# Altium integrated library ST Comm Telephone Circuit.IntLib: 30 symbols
Pins are listed as number, name and electrical type; pins without a type are passive.

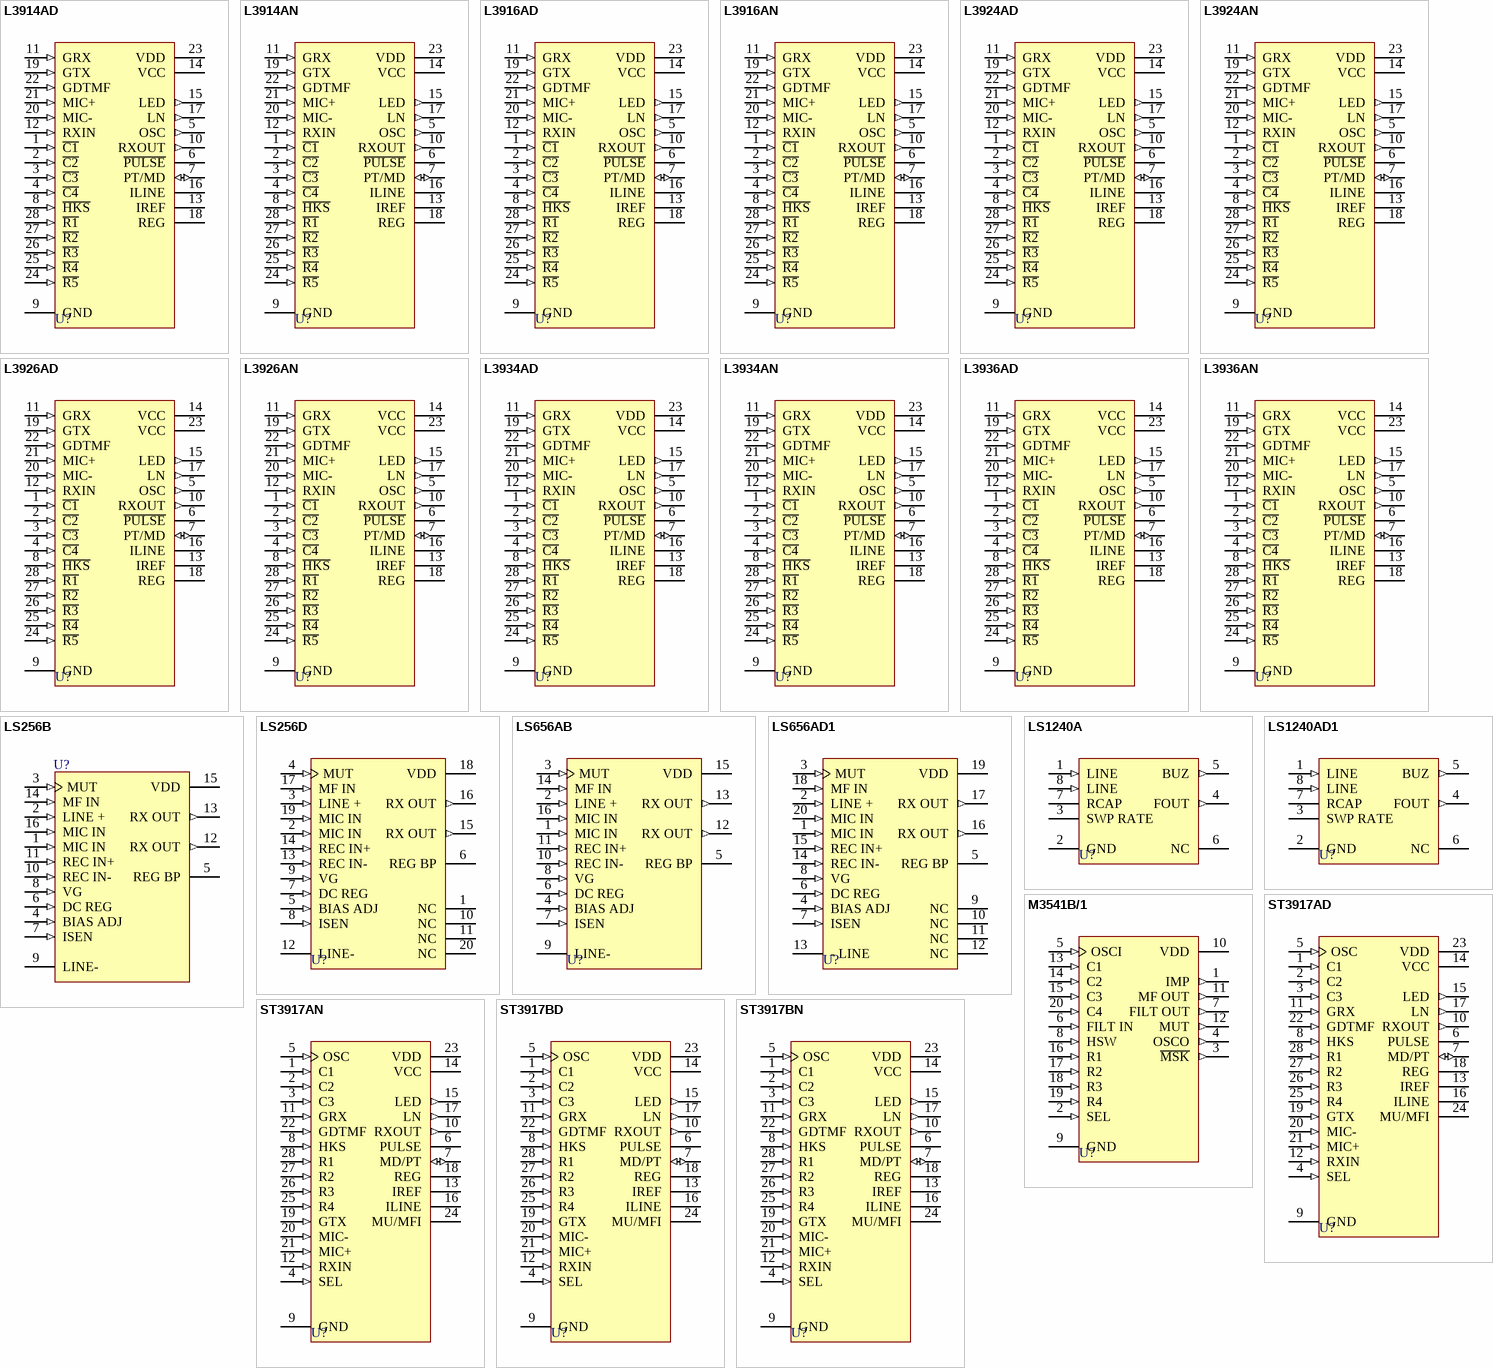
[diagram p0: symbols L3914AD to ST3917BN]

## L3914AD
designator U?
Speech and 14 Memory Dialer with Hold Function; Published: 24-Aug-2001; LatestRevisionDate: 6-Jun-2005; LatestRevisionNote: Stylized 3D Model Added.; DatasheetDocument: Jan-1995; PackageDocument: Jul-2001; PackageReference: SO28; Publisher: Altium Limited; Code_IPC: SO28W; ComponentLink1Description: Manufacturer Link; ComponentLink1URL: http://www.st.com/
footprint SO28 (Small Outline, Plastic; 28 Leads; Body Width 7.5 mm; Pitch 1.27 mm)
3D model SO28 (Small Outline, Plastic; 28 Leads; Body Width 7.5 mm; Pitch 1.27 mm)
pins: 1 ~{C1} (in), 2 ~{C2} (in), 3 ~{C3} (in), 4 ~{C4} (in), 5 OSC (out), 6 ~{PULSE} (oc), 7 PT/MD (io), 8 ~{HKS} (in), 9 GND (power), 10 RXOUT (out), 11 GRX (in), 12 RXIN (in), 13 IREF, 14 VCC (power), 15 LED (out), 16 ILINE, 17 LN (out), 18 REG, 19 GTX (in), 20 MIC- (in), 21 MIC+ (in), 22 GDTMF (in), 23 VDD (power), 24 ~{R5} (in), 25 ~{R4} (in), 26 ~{R3} (in), 27 ~{R2} (in), 28 ~{R1} (in)

## L3914AN
designator U?
Speech and 14 Memory Dialer with Hold Function; Published: 24-Aug-2001; LatestRevisionDate: 6-Jun-2005; LatestRevisionNote: Stylized 3D Model Added.; DatasheetDocument: Jan-1995; PackageDocument: Jan-2003; PackageReference: PDIP28; Publisher: Altium Limited; ComponentLink1Description: Manufacturer Link; ComponentLink1URL: http://www.st.com/
footprint PDIP28 (DIP; 28 Leads; Row Spacing 15.24 mm; Pitch 2.54 mm)
3D model PDIP28 (DIP; 28 Leads; Row Spacing 15.24 mm; Pitch 2.54 mm)
pins: 1 ~{C1} (in), 2 ~{C2} (in), 3 ~{C3} (in), 4 ~{C4} (in), 5 OSC (out), 6 ~{PULSE} (oc), 7 PT/MD (io), 8 ~{HKS} (in), 9 GND (power), 10 RXOUT (out), 11 GRX (in), 12 RXIN (in), 13 IREF, 14 VCC (power), 15 LED (out), 16 ILINE, 17 LN (out), 18 REG, 19 GTX (in), 20 MIC- (in), 21 MIC+ (in), 22 GDTMF (in), 23 VDD (power), 24 ~{R5} (in), 25 ~{R4} (in), 26 ~{R3} (in), 27 ~{R2} (in), 28 ~{R1} (in)

## L3916AD
designator U?
Speech and 14 Memory Dialer with LED Driver; Published: 24-Aug-2001; LatestRevisionDate: 6-Jun-2005; LatestRevisionNote: Stylized 3D Model Added.; DatasheetDocument: Jan-1995; PackageDocument: Jul-2001; PackageReference: SO28; Publisher: Altium Limited; Code_IPC: SO28W; ComponentLink1Description: Manufacturer Link; ComponentLink1URL: http://www.st.com/
footprint SO28 (Small Outline, Plastic; 28 Leads; Body Width 7.5 mm; Pitch 1.27 mm)
3D model SO28 (Small Outline, Plastic; 28 Leads; Body Width 7.5 mm; Pitch 1.27 mm)
pins: 1 ~{C1} (in), 2 ~{C2} (in), 3 ~{C3} (in), 4 ~{C4} (in), 5 OSC (out), 6 ~{PULSE} (oc), 7 PT/MD (io), 8 ~{HKS} (in), 9 GND (power), 10 RXOUT (out), 11 GRX (in), 12 RXIN (in), 13 IREF, 14 VCC (power), 15 LED (out), 16 ILINE, 17 LN (out), 18 REG, 19 GTX (in), 20 MIC- (in), 21 MIC+ (in), 22 GDTMF (in), 23 VDD (power), 24 ~{R5} (in), 25 ~{R4} (in), 26 ~{R3} (in), 27 ~{R2} (in), 28 ~{R1} (in)

## L3916AN
designator U?
Speech and 14 Memory Dialer with LED Driver; Published: 24-Aug-2001; LatestRevisionDate: 6-Jun-2005; LatestRevisionNote: Stylized 3D Model Added.; DatasheetDocument: Jan-1995; PackageDocument: Jan-2003; PackageReference: PDIP28; Publisher: Altium Limited; ComponentLink1Description: Manufacturer Link; ComponentLink1URL: http://www.st.com/
footprint PDIP28 (DIP; 28 Leads; Row Spacing 15.24 mm; Pitch 2.54 mm)
3D model PDIP28 (DIP; 28 Leads; Row Spacing 15.24 mm; Pitch 2.54 mm)
pins: 1 ~{C1} (in), 2 ~{C2} (in), 3 ~{C3} (in), 4 ~{C4} (in), 5 OSC (out), 6 ~{PULSE} (oc), 7 PT/MD (io), 8 ~{HKS} (in), 9 GND (power), 10 RXOUT (out), 11 GRX (in), 12 RXIN (in), 13 IREF, 14 VCC (power), 15 LED (out), 16 ILINE, 17 LN (out), 18 REG, 19 GTX (in), 20 MIC- (in), 21 MIC+ (in), 22 GDTMF (in), 23 VDD (power), 24 ~{R5} (in), 25 ~{R4} (in), 26 ~{R3} (in), 27 ~{R2} (in), 28 ~{R1} (in)

## L3924AD
designator U?
Speech and 14 Memory Dialer with Hold Function; Published: 24-Aug-2001; LatestRevisionDate: 6-Jun-2005; LatestRevisionNote: Stylized 3D Model Added.; DatasheetDocument: Jan-1995; PackageDocument: Jul-2001; PackageReference: SO28; Publisher: Altium Limited; Code_IPC: SO28W; ComponentLink1Description: Manufacturer Link; ComponentLink1URL: http://www.st.com/
footprint SO28 (Small Outline, Plastic; 28 Leads; Body Width 7.5 mm; Pitch 1.27 mm)
3D model SO28 (Small Outline, Plastic; 28 Leads; Body Width 7.5 mm; Pitch 1.27 mm)
pins: 1 ~{C1} (in), 2 ~{C2} (in), 3 ~{C3} (in), 4 ~{C4} (in), 5 OSC (out), 6 ~{PULSE} (oc), 7 PT/MD (io), 8 ~{HKS} (in), 9 GND (power), 10 RXOUT (out), 11 GRX (in), 12 RXIN (in), 13 IREF, 14 VCC (power), 15 LED (out), 16 ILINE, 17 LN (out), 18 REG, 19 GTX (in), 20 MIC- (in), 21 MIC+ (in), 22 GDTMF (in), 23 VDD (power), 24 ~{R5} (in), 25 ~{R4} (in), 26 ~{R3} (in), 27 ~{R2} (in), 28 ~{R1} (in)

## L3924AN
designator U?
Speech and 14 Memory Dialer with Hold Function; Published: 24-Aug-2001; LatestRevisionDate: 6-Jun-2005; LatestRevisionNote: Stylized 3D Model Added.; DatasheetDocument: Jan-1995; PackageDocument: Jan-2003; PackageReference: PDIP28; Publisher: Altium Limited; ComponentLink1Description: Manufacturer Link; ComponentLink1URL: http://www.st.com/
footprint PDIP28 (DIP; 28 Leads; Row Spacing 15.24 mm; Pitch 2.54 mm)
3D model PDIP28 (DIP; 28 Leads; Row Spacing 15.24 mm; Pitch 2.54 mm)
pins: 1 ~{C1} (in), 2 ~{C2} (in), 3 ~{C3} (in), 4 ~{C4} (in), 5 OSC (out), 6 ~{PULSE} (oc), 7 PT/MD (io), 8 ~{HKS} (in), 9 GND (power), 10 RXOUT (out), 11 GRX (in), 12 RXIN (in), 13 IREF, 14 VCC (power), 15 LED (out), 16 ILINE, 17 LN (out), 18 REG, 19 GTX (in), 20 MIC- (in), 21 MIC+ (in), 22 GDTMF (in), 23 VDD (power), 24 ~{R5} (in), 25 ~{R4} (in), 26 ~{R3} (in), 27 ~{R2} (in), 28 ~{R1} (in)

## L3926AD
designator U?
Speech and 14 Memory Dialer with LED Driver; Published: 24-Aug-2001; LatestRevisionDate: 6-Jun-2005; LatestRevisionNote: Stylized 3D Model Added.; DatasheetDocument: Jan-1995; PackageDocument: Jul-2001; PackageReference: SO28; Publisher: Altium Limited; Code_IPC: SO28W; ComponentLink1Description: Manufacturer Link; ComponentLink1URL: http://www.st.com/
footprint SO28 (Small Outline, Plastic; 28 Leads; Body Width 7.5 mm; Pitch 1.27 mm)
3D model SO28 (Small Outline, Plastic; 28 Leads; Body Width 7.5 mm; Pitch 1.27 mm)
pins: 1 ~{C1} (in), 2 ~{C2} (in), 3 ~{C3} (in), 4 ~{C4} (in), 5 OSC (out), 6 ~{PULSE} (oc), 7 PT/MD (io), 8 ~{HKS} (in), 9 GND (power), 10 RXOUT (out), 11 GRX (in), 12 RXIN (in), 13 IREF, 14 VCC (power), 15 LED (out), 16 ILINE, 17 LN (out), 18 REG, 19 GTX (in), 20 MIC- (in), 21 MIC+ (in), 22 GDTMF (in), 23 VCC (power), 24 ~{R5} (in), 25 ~{R4} (in), 26 ~{R3} (in), 27 ~{R2} (in), 28 ~{R1} (in)

## L3926AN
designator U?
Speech and 14 Memory Dialer with LED Driver; Published: 24-Aug-2001; LatestRevisionDate: 6-Jun-2005; LatestRevisionNote: Stylized 3D Model Added.; DatasheetDocument: Jan-1995; PackageDocument: Jan-2003; PackageReference: PDIP28; Publisher: Altium Limited; ComponentLink1Description: Manufacturer Link; ComponentLink1URL: http://www.st.com/
footprint PDIP28 (DIP; 28 Leads; Row Spacing 15.24 mm; Pitch 2.54 mm)
3D model PDIP28 (DIP; 28 Leads; Row Spacing 15.24 mm; Pitch 2.54 mm)
pins: 1 ~{C1} (in), 2 ~{C2} (in), 3 ~{C3} (in), 4 ~{C4} (in), 5 OSC (out), 6 ~{PULSE} (oc), 7 PT/MD (io), 8 ~{HKS} (in), 9 GND (power), 10 RXOUT (out), 11 GRX (in), 12 RXIN (in), 13 IREF, 14 VCC (power), 15 LED (out), 16 ILINE, 17 LN (out), 18 REG, 19 GTX (in), 20 MIC- (in), 21 MIC+ (in), 22 GDTMF (in), 23 VCC (power), 24 ~{R5} (in), 25 ~{R4} (in), 26 ~{R3} (in), 27 ~{R2} (in), 28 ~{R1} (in)

## L3934AD
designator U?
Speech and 14 Memory Dialer with Hold Function; Published: 24-Aug-2001; LatestRevisionDate: 6-Jun-2005; LatestRevisionNote: Stylized 3D Model Added.; DatasheetDocument: Jan-1995; PackageDocument: Jul-2001; PackageReference: SO28; Publisher: Altium Limited; Code_IPC: SO28W; ComponentLink1Description: Manufacturer Link; ComponentLink1URL: http://www.st.com/
footprint SO28 (Small Outline, Plastic; 28 Leads; Body Width 7.5 mm; Pitch 1.27 mm)
3D model SO28 (Small Outline, Plastic; 28 Leads; Body Width 7.5 mm; Pitch 1.27 mm)
pins: 1 ~{C1} (in), 2 ~{C2} (in), 3 ~{C3} (in), 4 ~{C4} (in), 5 OSC (out), 6 ~{PULSE} (oc), 7 PT/MD (io), 8 ~{HKS} (in), 9 GND (power), 10 RXOUT (out), 11 GRX (in), 12 RXIN (in), 13 IREF, 14 VCC (power), 15 LED (out), 16 ILINE, 17 LN (out), 18 REG, 19 GTX (in), 20 MIC- (in), 21 MIC+ (in), 22 GDTMF (in), 23 VDD (power), 24 ~{R5} (in), 25 ~{R4} (in), 26 ~{R3} (in), 27 ~{R2} (in), 28 ~{R1} (in)

## L3934AN
designator U?
Speech and 14 Memory Dialer with Hold Function; Published: 24-Aug-2001; LatestRevisionDate: 6-Jun-2005; LatestRevisionNote: Stylized 3D Model Added.; DatasheetDocument: Jan-1995; PackageDocument: Jan-2003; PackageReference: PDIP28; Publisher: Altium Limited; ComponentLink1Description: Manufacturer Link; ComponentLink1URL: http://www.st.com/
footprint PDIP28 (DIP; 28 Leads; Row Spacing 15.24 mm; Pitch 2.54 mm)
3D model PDIP28 (DIP; 28 Leads; Row Spacing 15.24 mm; Pitch 2.54 mm)
pins: 1 ~{C1} (in), 2 ~{C2} (in), 3 ~{C3} (in), 4 ~{C4} (in), 5 OSC (out), 6 ~{PULSE} (oc), 7 PT/MD (io), 8 ~{HKS} (in), 9 GND (power), 10 RXOUT (out), 11 GRX (in), 12 RXIN (in), 13 IREF, 14 VCC (power), 15 LED (out), 16 ILINE, 17 LN (out), 18 REG, 19 GTX (in), 20 MIC- (in), 21 MIC+ (in), 22 GDTMF (in), 23 VDD (power), 24 ~{R5} (in), 25 ~{R4} (in), 26 ~{R3} (in), 27 ~{R2} (in), 28 ~{R1} (in)

## L3936AD
designator U?
Speech and 14 Memory Dialer with LED Driver; Published: 24-Aug-2001; LatestRevisionDate: 6-Jun-2005; LatestRevisionNote: Stylized 3D Model Added.; DatasheetDocument: Jan-1995; PackageDocument: Jul-2001; PackageReference: SO28; Publisher: Altium Limited; Code_IPC: SO28W; ComponentLink1Description: Manufacturer Link; ComponentLink1URL: http://www.st.com/
footprint SO28 (Small Outline, Plastic; 28 Leads; Body Width 7.5 mm; Pitch 1.27 mm)
3D model SO28 (Small Outline, Plastic; 28 Leads; Body Width 7.5 mm; Pitch 1.27 mm)
pins: 1 ~{C1} (in), 2 ~{C2} (in), 3 ~{C3} (in), 4 ~{C4} (in), 5 OSC (out), 6 ~{PULSE} (oc), 7 PT/MD (io), 8 ~{HKS} (in), 9 GND (power), 10 RXOUT (out), 11 GRX (in), 12 RXIN (in), 13 IREF, 14 VCC (power), 15 LED (out), 16 ILINE, 17 LN (out), 18 REG, 19 GTX (in), 20 MIC- (in), 21 MIC+ (in), 22 GDTMF (in), 23 VCC (power), 24 ~{R5} (in), 25 ~{R4} (in), 26 ~{R3} (in), 27 ~{R2} (in), 28 ~{R1} (in)

## L3936AN
designator U?
Speech and 14 Memory Dialer with LED Driver; Published: 24-Aug-2001; LatestRevisionDate: 6-Jun-2005; LatestRevisionNote: Stylized 3D Model Added.; DatasheetDocument: Jan-1995; PackageDocument: Jan-2003; PackageReference: PDIP28; Publisher: Altium Limited; ComponentLink1Description: Manufacturer Link; ComponentLink1URL: http://www.st.com/
footprint PDIP28 (DIP; 28 Leads; Row Spacing 15.24 mm; Pitch 2.54 mm)
3D model PDIP28 (DIP; 28 Leads; Row Spacing 15.24 mm; Pitch 2.54 mm)
pins: 1 ~{C1} (in), 2 ~{C2} (in), 3 ~{C3} (in), 4 ~{C4} (in), 5 OSC (out), 6 ~{PULSE} (oc), 7 PT/MD (io), 8 ~{HKS} (in), 9 GND (power), 10 RXOUT (out), 11 GRX (in), 12 RXIN (in), 13 IREF, 14 VCC (power), 15 LED (out), 16 ILINE, 17 LN (out), 18 REG, 19 GTX (in), 20 MIC- (in), 21 MIC+ (in), 22 GDTMF (in), 23 VCC (power), 24 ~{R5} (in), 25 ~{R4} (in), 26 ~{R3} (in), 27 ~{R2} (in), 28 ~{R1} (in)

## LS256B
designator U?
Telephone Speech Circuit with Multifrequency Tone Generator Interface; Published: 24-Aug-2001; LatestRevisionDate: 6-Jun-2005; LatestRevisionNote: Stylized 3D Model Added.; DatasheetDocument: Nov-1996; PackageDocument: Apr-1996; PackageReference: DIP16; Publisher: Altium Limited; ComponentLink1Description: Manufacturer Link; ComponentLink1URL: http://www.st.com/
footprint DIP16 (DIP; 16 Leads; Row Spacing 7.62 mm; Pitch 2.54 mm)
3D model DIP16 (DIP; 16 Leads; Row Spacing 7.62 mm; Pitch 2.54 mm)
pins: 1 MIC IN (in), 2 LINE + (in), 3 MUT (in), 4 BIAS ADJ (in), 5 REG BP, 6 DC REG (in), 7 ISEN (in), 8 VG (in), 9 LINE- (power), 10 REC IN- (in), 11 REC IN+ (in), 12 RX OUT (out), 13 RX OUT (out), 14 MF IN (in), 15 VDD (power), 16 MIC IN (in)

## LS256D
designator U?
Telephone Speech Circuit with Multifrequency Tone Generator Interface; Published: 24-Aug-2001; LatestRevisionDate: 6-Jun-2005; LatestRevisionNote: Stylized 3D Model Added.; DatasheetDocument: Nov-1996; PackageDocument: Jul-2001; PackageReference: SO20; Publisher: Altium Limited; Code_JEDEC: MS-013-AC; Code_IPC: SO20W; ComponentLink1Description: Manufacturer Link; ComponentLink1URL: http://www.st.com/
footprint SO20 (Small Outline, Plastic; 20 Leads; Body Width 7.5 mm; Pitch 1.27 mm)
3D model SO20 (Small Outline, Plastic; 20 Leads; Body Width 7.5 mm; Pitch 1.27 mm)
pins: 1 NC, 2 MIC IN (in), 3 LINE + (in), 4 MUT (in), 5 BIAS ADJ (in), 6 REG BP, 7 DC REG (in), 8 ISEN (in), 9 VG (in), 10 NC, 11 NC, 12 LINE- (power), 13 REC IN- (in), 14 REC IN+ (in), 15 RX OUT (out), 16 RX OUT (out), 17 MF IN (in), 18 VDD (power), 19 MIC IN (in), 20 NC

## LS656AB
designator U?
Telephone Speech Circuit with Multifrequency Tone Generator Interface; Published: 24-Aug-2001; LatestRevisionDate: 6-Jun-2005; LatestRevisionNote: Stylized 3D Model Added.; DatasheetDocument: Jun-1993; PackageDocument: Apr-1996; PackageReference: DIP16; Publisher: Altium Limited; ComponentLink1Description: Manufacturer Link; ComponentLink1URL: http://www.st.com/
footprint DIP16 (DIP; 16 Leads; Row Spacing 7.62 mm; Pitch 2.54 mm)
3D model DIP16 (DIP; 16 Leads; Row Spacing 7.62 mm; Pitch 2.54 mm)
pins: 1 MIC IN (in), 2 LINE + (in), 3 MUT (in), 4 BIAS ADJ (in), 5 REG BP, 6 DC REG (in), 7 ISEN (in), 8 VG (in), 9 LINE- (power), 10 REC IN- (in), 11 REC IN+ (in), 12 RX OUT (out), 13 RX OUT (out), 14 MF IN (in), 15 VDD (power), 16 MIC IN (in)

## LS656AD1
designator U?
Telephone Speech Circuit with Multifrequency Tone Generator Interface; Published: 24-Aug-2001; LatestRevisionDate: 6-Jun-2005; LatestRevisionNote: Stylized 3D Model Added.; DatasheetDocument: Jun-1993; PackageDocument: Jul-2001; PackageReference: SO20; Publisher: Altium Limited; Code_JEDEC: MS-013-AC; Code_IPC: SO20W; ComponentLink1Description: Manufacturer Link; ComponentLink1URL: http://www.st.com/
footprint SO20 (Small Outline, Plastic; 20 Leads; Body Width 7.5 mm; Pitch 1.27 mm)
3D model SO20 (Small Outline, Plastic; 20 Leads; Body Width 7.5 mm; Pitch 1.27 mm)
pins: 1 MIC IN (in), 2 LINE + (in), 3 MUT (in), 4 BIAS ADJ (in), 5 REG BP, 6 DC REG (in), 7 ISEN (in), 8 VG (in), 9 NC, 10 NC, 11 NC, 12 NC, 13 - LINE (power), 14 REC IN- (in), 15 REC IN+ (in), 16 RX OUT (out), 17 RX OUT (out), 18 MF IN (in), 19 VDD (power), 20 MIC IN (in)

## LS1240A
designator U?
Electronic Two-Tone Ringer; Published: 24-Aug-2001; LatestRevisionDate: 6-Jun-2005; LatestRevisionNote: Stylized 3D Model Added.; DatasheetDocument: Jul-1998; PackageReference: DIP8; Publisher: Altium Limited; Code_JEDEC: MO-001-AN; ComponentLink1Description: Manufacturer Link; ComponentLink1URL: http://www.st.com/; ComponentLink2Description: Datasheet; ComponentLink2URL: http://www.st.com/stonline/products/literature/ds/1041/ls1240.pdf
footprint DIP8 (DIP; 8 Leads; Row Spacing 7.62 mm; Pitch 2.54 mm)
3D model DIP8 (DIP; 8 Leads; Row Spacing 7.62 mm; Pitch 2.54 mm)
pins: 1 LINE (in), 2 GND (power), 3 SWP RATE, 4 FOUT (out), 5 BUZ (out), 6 NC, 7 RCAP, 8 LINE (in)

## LS1240AD1
designator U?
Electronic Two-Tone Ringer; Published: 24-Aug-2001; LatestRevisionDate: 6-Jun-2005; LatestRevisionNote: Stylized 3D Model Added.; DatasheetDocument: Jul-1998; PackageDocument: Jul-1998; PackageReference: SO8; Publisher: Altium Limited; Code_JEDEC: MS-012-AA; Code_IPC: SO8; ComponentLink1Description: Manufacturer Link; ComponentLink1URL: http://www.st.com/; ComponentLink2Description: Datasheet; ComponentLink2URL: http://www.st.com/stonline/products/literature/ds/1041/ls1240.pdf
footprint SO8 (Small Outline; 8 Leads; Body Width 3.9 mm; Pitch 1.27 mm)
3D model SO8 (Small Outline; 8 Leads; Body Width 3.9 mm; Pitch 1.27 mm)
pins: 1 LINE (in), 2 GND (power), 3 SWP RATE, 4 FOUT (out), 5 BUZ (out), 6 NC, 7 RCAP, 8 LINE (in)

## M3541B/1
designator U?
Single Number Pulse Tone Switchable Dialer; Published: 24-Aug-2001; LatestRevisionDate: 6-Jun-2005; LatestRevisionNote: Stylized 3D Model Added.; DatasheetDocument: Jul-1993; PackageDocument: Jun-1998; PackageReference: DIP20; Publisher: Altium Limited; Code_JEDEC: MS-015-AE; ComponentLink1Description: Manufacturer Link; ComponentLink1URL: http://www.st.com/
footprint DIP20 (DIP; 20 Leads; Row Spacing 7.62 mm; Pitch 2.54 mm)
3D model DIP20 (DIP; 20 Leads; Row Spacing 7.62 mm; Pitch 2.54 mm)
pins: 1 IMP (out), 2 SEL (in), 3 ~{MSK} (out), 4 OSCO (out), 5 OSCI (in), 6 FILT IN (in), 7 FILT OUT (out), 8 HSW (in), 9 GND (power), 10 VDD (power), 11 MF OUT (out), 12 MUT (out), 13 C1 (in), 14 C2 (in), 15 C3 (in), 16 R1 (in), 17 R2 (in), 18 R3 (in), 19 R4 (in), 20 C4 (in)

## ST3917AD
designator U?
Speech - Tone/Pulse Dialer - LED Indicator; Published: 24-Aug-2001; LatestRevisionDate: 6-Jun-2005; LatestRevisionNote: Stylized 3D Model Added.; DatasheetDocument: Jul-1996; PackageDocument: Jul-2001; PackageReference: SO28; Publisher: Altium Limited; Code_IPC: SO28W; ComponentLink1Description: Manufacturer Link; ComponentLink1URL: http://www.st.com/
footprint SO28 (Small Outline, Plastic; 28 Leads; Body Width 7.5 mm; Pitch 1.27 mm)
3D model SO28 (Small Outline, Plastic; 28 Leads; Body Width 7.5 mm; Pitch 1.27 mm)
pins: 1 C1 (in), 2 C2 (in), 3 C3 (in), 4 SEL (in), 5 OSC (in), 6 PULSE (oc), 7 MD/PT (io), 8 HKS (in), 9 GND (power), 10 RXOUT (out), 11 GRX (in), 12 RXIN (in), 13 IREF, 14 VCC (power), 15 LED (out), 16 ILINE, 17 LN (out), 18 REG, 19 GTX (in), 20 MIC- (in), 21 MIC+ (in), 22 GDTMF (in), 23 VDD (power), 24 MU/MFI, 25 R4 (in), 26 R3 (in), 27 R2 (in), 28 R1 (in)

## ST3917AN
designator U?
Speech - Tone/Pulse Dialer - LED Indicator; Published: 24-Aug-2001; LatestRevisionDate: 6-Jun-2005; LatestRevisionNote: Stylized 3D Model Added.; DatasheetDocument: Jul-1996; PackageDocument: Jan-2003; PackageReference: PDIP28; Publisher: Altium Limited; ComponentLink1Description: Manufacturer Link; ComponentLink1URL: http://www.st.com/
footprint PDIP28 (DIP; 28 Leads; Row Spacing 15.24 mm; Pitch 2.54 mm)
3D model PDIP28 (DIP; 28 Leads; Row Spacing 15.24 mm; Pitch 2.54 mm)
pins: 1 C1 (in), 2 C2 (in), 3 C3 (in), 4 SEL (in), 5 OSC (in), 6 PULSE (oc), 7 MD/PT (io), 8 HKS (in), 9 GND (power), 10 RXOUT (out), 11 GRX (in), 12 RXIN (in), 13 IREF, 14 VCC (power), 15 LED (out), 16 ILINE, 17 LN (out), 18 REG, 19 GTX (in), 20 MIC- (in), 21 MIC+ (in), 22 GDTMF (in), 23 VDD (power), 24 MU/MFI, 25 R4 (in), 26 R3 (in), 27 R2 (in), 28 R1 (in)

## ST3917BD
designator U?
Speech - Tone/Pulse Dialer - LED Indicator; Published: 24-Aug-2001; LatestRevisionDate: 6-Jun-2005; LatestRevisionNote: Stylized 3D Model Added.; DatasheetDocument: Jul-1996; PackageDocument: Jul-2001; PackageReference: SO28; Publisher: Altium Limited; Code_IPC: SO28W; ComponentLink1Description: Manufacturer Link; ComponentLink1URL: http://www.st.com/
footprint SO28 (Small Outline, Plastic; 28 Leads; Body Width 7.5 mm; Pitch 1.27 mm)
3D model SO28 (Small Outline, Plastic; 28 Leads; Body Width 7.5 mm; Pitch 1.27 mm)
pins: 1 C1 (in), 2 C2 (in), 3 C3 (in), 4 SEL (in), 5 OSC (in), 6 PULSE (oc), 7 MD/PT (io), 8 HKS (in), 9 GND (power), 10 RXOUT (out), 11 GRX (in), 12 RXIN (in), 13 IREF, 14 VCC (power), 15 LED (out), 16 ILINE, 17 LN (out), 18 REG, 19 GTX (in), 20 MIC- (in), 21 MIC+ (in), 22 GDTMF (in), 23 VDD (power), 24 MU/MFI, 25 R4 (in), 26 R3 (in), 27 R2 (in), 28 R1 (in)

## ST3917BN
designator U?
Speech - Tone/Pulse Dialer - LED Indicator; Published: 24-Aug-2001; LatestRevisionDate: 6-Jun-2005; LatestRevisionNote: Stylized 3D Model Added.; DatasheetDocument: Jul-1996; PackageDocument: Jan-2003; PackageReference: PDIP28; Publisher: Altium Limited; ComponentLink1Description: Manufacturer Link; ComponentLink1URL: http://www.st.com/
footprint PDIP28 (DIP; 28 Leads; Row Spacing 15.24 mm; Pitch 2.54 mm)
3D model PDIP28 (DIP; 28 Leads; Row Spacing 15.24 mm; Pitch 2.54 mm)
pins: 1 C1 (in), 2 C2 (in), 3 C3 (in), 4 SEL (in), 5 OSC (in), 6 PULSE (oc), 7 MD/PT (io), 8 HKS (in), 9 GND (power), 10 RXOUT (out), 11 GRX (in), 12 RXIN (in), 13 IREF, 14 VCC (power), 15 LED (out), 16 ILINE, 17 LN (out), 18 REG, 19 GTX (in), 20 MIC- (in), 21 MIC+ (in), 22 GDTMF (in), 23 VDD (power), 24 MU/MFI, 25 R4 (in), 26 R3 (in), 27 R2 (in), 28 R1 (in)

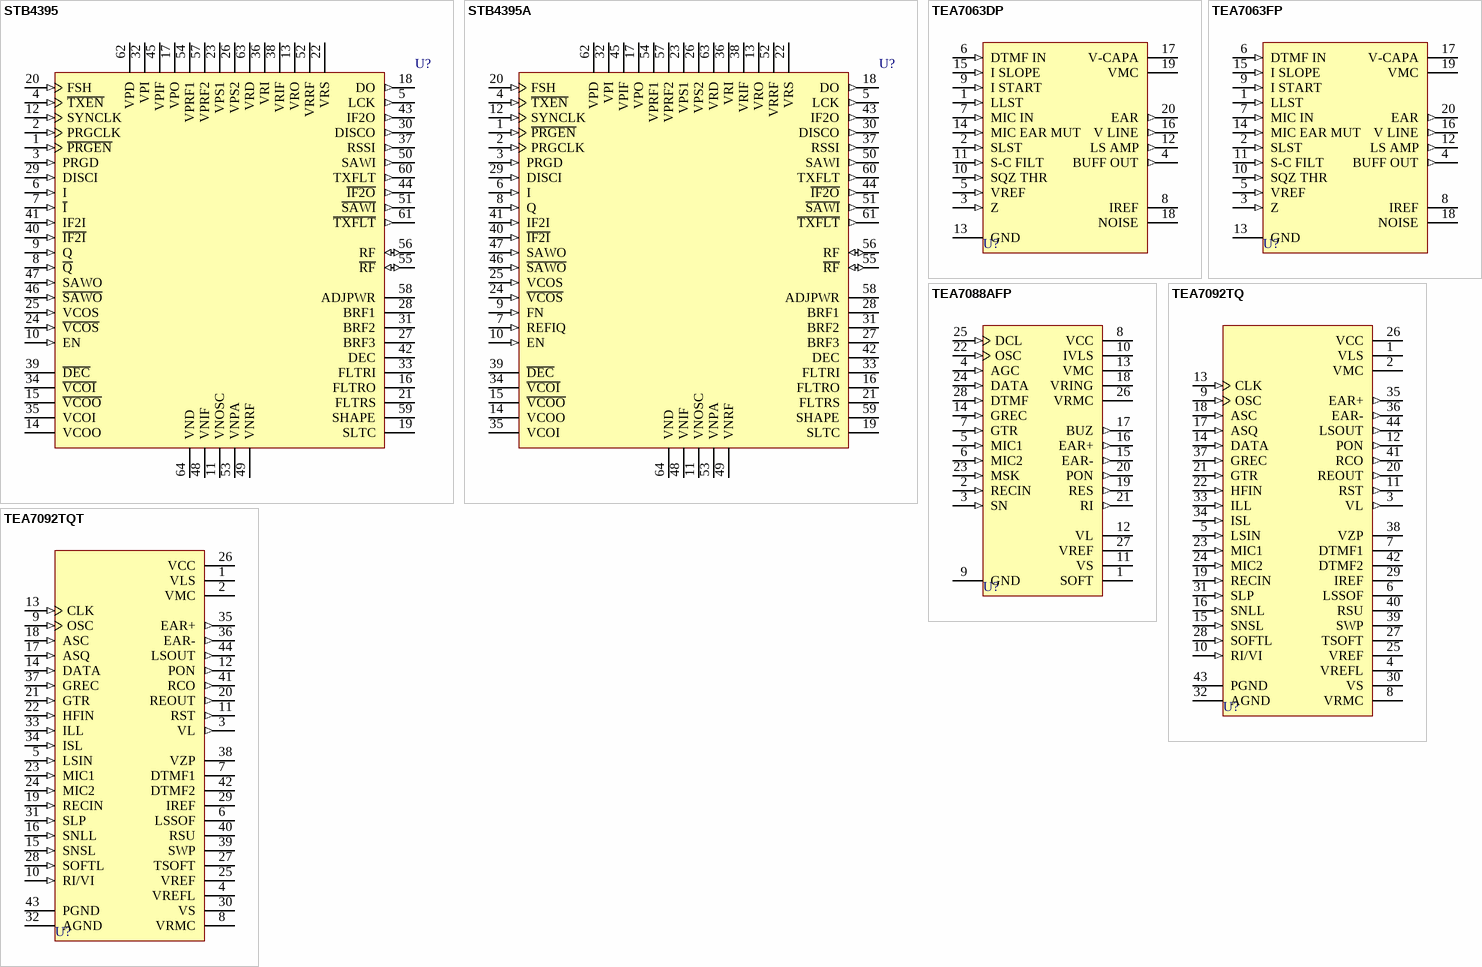
[diagram p1: symbols STB4395 to TEA7092TQT]

## STB4395
designator U?
CT2 Receiver/Transmitter; Published: 24-Aug-2001; LatestRevisionDate: 6-Jun-2005; LatestRevisionNote: Stylized 3D Model Added.; DatasheetDocument: Apr-1996; PackageDocument: Jul-2001; PackageReference: PQFP64; Publisher: Altium Limited; ComponentLink1Description: Manufacturer Link; ComponentLink1URL: http://www.st.com/
footprint PQFP64 (QFP, Plastic; 64 Leads; Body 14 x 14 mm; Pitch 0.8 mm)
3D model STB4395-PQFP64 (QFP, Plastic; 64 Leads; Body 14 x 14 mm; Pitch 0.8 mm)
pins: 1 ~{PRGEN} (in), 2 PRGCLK (in), 3 PRGD (in), 4 ~{TXEN} (in), 5 LCK (out), 6 I (in), 7 ~{I} (in), 8 ~{Q} (in), 9 Q (in), 10 EN (in), 11 VNOSC (power), 12 SYNCLK (in), 13 VRO (power), 14 VCOO, 15 ~{VCOO}, 16 FLTRO, 17 VPO (power), 18 DO (out), 19 SLTC, 20 FSH (in), 21 FLTRS, 22 VRS (power), 23 VPS1 (power), 24 ~{VCOS} (in), 25 VCOS (in), 26 VPS2 (power), 27 BRF3, 28 BRF1, 29 DISCI (in), 30 DISCO (out), 31 BRF2, 32 VPI (power), 33 FLTRI, 34 ~{VCOI}, 35 VCOI, 36 VRI (power), 37 RSSI (out), 38 VRIF (power), 39 ~{DEC}, 40 ~{IF2I} (in), 41 IF2I (in), 42 DEC, 43 IF2O (out), 44 ~{IF2O} (out), 45 VPIF (power), 46 ~{SAWO} (in), 47 SAWO (in), 48 VNIF (power), 49 VNRF (power), 50 SAWI (out), 51 ~{SAWI} (out), 52 VRRF (power), 53 VNPA (power), 54 VPRF1 (power), 55 ~{RF} (io), 56 RF (io), 57 VPRF2 (power), 58 ADJPWR, 59 SHAPE, 60 TXFLT (out), 61 ~{TXFLT} (out), 62 VPD (power), 63 VRD (power), 64 VND (power)

## STB4395A
designator U?
CT2 Receiver/Transmitter; Published: 24-Aug-2001; LatestRevisionDate: 6-Jun-2005; LatestRevisionNote: Stylized 3D Model Added.; DatasheetDocument: Apr-1996; PackageDocument: Jul-2001; PackageReference: PQFP64; Publisher: Altium Limited; ComponentLink1Description: Manufacturer Link; ComponentLink1URL: http://www.st.com/
footprint PQFP64 (QFP, Plastic; 64 Leads; Body 14 x 14 mm; Pitch 0.8 mm)
3D model STB4395A-PQFP64 (QFP, Plastic; 64 Leads; Body 14 x 14 mm; Pitch 0.8 mm)
pins: 1 ~{PRGEN} (in), 2 PRGCLK (in), 3 PRGD (in), 4 ~{TXEN} (in), 5 LCK (out), 6 I (in), 7 REFIQ (in), 8 Q (in), 9 FN (in), 10 EN (in), 11 VNOSC (power), 12 SYNCLK (in), 13 VRO (power), 14 VCOO, 15 ~{VCOO}, 16 FLTRO, 17 VPO (power), 18 DO (out), 19 SLTC, 20 FSH (in), 21 FLTRS, 22 VRS (power), 23 VPS1 (power), 24 ~{VCOS} (in), 25 VCOS (in), 26 VPS2 (power), 27 BRF3, 28 BRF1, 29 DISCI (in), 30 DISCO (out), 31 BRF2, 32 VPI (power), 33 FLTRI, 34 ~{VCOI}, 35 VCOI, 36 VRI (power), 37 RSSI (out), 38 VRIF (power), 39 ~{DEC}, 40 ~{IF2I} (in), 41 IF2I (in), 42 DEC, 43 IF2O (out), 44 ~{IF2O} (out), 45 VPIF (power), 46 ~{SAWO} (in), 47 SAWO (in), 48 VNIF (power), 49 VNRF (power), 50 SAWI (out), 51 ~{SAWI} (out), 52 VRRF (power), 53 VNPA (power), 54 VPRF1 (power), 55 ~{RF} (io), 56 RF (io), 57 VPRF2 (power), 58 ADJPWR, 59 SHAPE, 60 TXFLT (out), 61 ~{TXFLT} (out), 62 VPD (power), 63 VRD (power), 64 VND (power)

## TEA7063DP
designator U?
Speech Circuit with Power Management; Published: 24-Aug-2001; LatestRevisionDate: 6-Jun-2005; LatestRevisionNote: Stylized 3D Model Added.; DatasheetDocument: Jan-1994; PackageDocument: Jul-2001; PackageReference: SO20; Publisher: Altium Limited; Code_JEDEC: MS-013-AC; Code_IPC: SO20W; ComponentLink1Description: Manufacturer Link; ComponentLink1URL: http://www.st.com/
footprint SO20 (Small Outline, Plastic; 20 Leads; Body Width 7.5 mm; Pitch 1.27 mm)
3D model SO20 (Small Outline, Plastic; 20 Leads; Body Width 7.5 mm; Pitch 1.27 mm)
pins: 1 LLST (in), 2 SLST (in), 3 Z (in), 4 BUFF OUT (out), 5 VREF (in), 6 DTMF IN (in), 7 MIC IN (in), 8 IREF, 9 I START (in), 10 SQZ THR (in), 11 S-C FILT (in), 12 LS AMP (out), 13 GND (power), 14 MIC EAR MUT (in), 15 I SLOPE (in), 16 V LINE (out), 17 V-CAPA (power), 18 NOISE, 19 VMC (power), 20 EAR (out)

## TEA7063FP
designator U?
Speech Circuit with Power Management; Published: 24-Aug-2001; LatestRevisionDate: 6-Jun-2005; LatestRevisionNote: Stylized 3D Model Added.; DatasheetDocument: Jan-1994; PackageDocument: Jun-1998; PackageReference: DIP20; Publisher: Altium Limited; Code_JEDEC: MS-015-AE; ComponentLink1Description: Manufacturer Link; ComponentLink1URL: http://www.st.com/
footprint DIP20 (DIP; 20 Leads; Row Spacing 7.62 mm; Pitch 2.54 mm)
3D model DIP20 (DIP; 20 Leads; Row Spacing 7.62 mm; Pitch 2.54 mm)
pins: 1 LLST (in), 2 SLST (in), 3 Z (in), 4 BUFF OUT (out), 5 VREF (in), 6 DTMF IN (in), 7 MIC IN (in), 8 IREF, 9 I START (in), 10 SQZ THR (in), 11 S-C FILT (in), 12 LS AMP (out), 13 GND (power), 14 MIC EAR MUT (in), 15 I SLOPE (in), 16 V LINE (out), 17 V-CAPA (power), 18 NOISE, 19 VMC (power), 20 EAR (out)

## TEA7088AFP
designator U?
Low-Range Phone Dedicated Chip; Published: 24-Aug-2001; LatestRevisionDate: 6-Jun-2005; LatestRevisionNote: Stylized 3D Model Added.; DatasheetDocument: Jan-1998; PackageDocument: Jul-2001; PackageReference: SO28; Publisher: Altium Limited; Code_IPC: SO28W; ComponentLink1Description: Manufacturer Link; ComponentLink1URL: http://www.st.com/
footprint SO28 (Small Outline, Plastic; 28 Leads; Body Width 7.5 mm; Pitch 1.27 mm)
3D model SO28 (Small Outline, Plastic; 28 Leads; Body Width 7.5 mm; Pitch 1.27 mm)
pins: 1 SOFT (power), 2 RECIN (in), 3 SN (in), 4 AGC (in), 5 MIC1 (in), 6 MIC2 (in), 7 GTR (in), 8 VCC (power), 9 GND (power), 10 IVLS (power), 11 VS, 12 VL, 13 VMC (power), 14 GREC (in), 15 EAR- (out), 16 EAR+ (out), 17 BUZ (out), 18 VRING (power), 19 RES (out), 20 PON (out), 21 RI (out), 22 OSC (in), 23 MSK (in), 24 DATA (in), 25 DCL (in), 26 VRMC (power), 27 VREF, 28 DTMF (in)

## TEA7092TQ
designator U?
Telephone Analog Front-End; Published: 24-Aug-2001; LatestRevisionDate: 6-Jun-2005; LatestRevisionNote: Stylized 3D Model Added.; DatasheetDocument: Jul-1996; PackageDocument: Oct-2003; PackageReference: TQFP44; Publisher: Altium Limited; ComponentLink1Description: Manufacturer Link; ComponentLink1URL: http://www.st.com/
footprint TQFP44 (QFP, Plastic, Thin; 44 Leads; Body 10 x 10 mm; Pitch 0.8 mm)
3D model TEA7092-TQFP44 (QFP, Plastic, Thin; 44 Leads; Body 10 x 10 mm; Pitch 0.8 mm)
pins: 1 VLS (power), 2 VMC (power), 3 VL (out), 4 VREFL, 5 LSIN (in), 6 LSSOF, 7 DTMF1, 8 VRMC (power), 9 OSC (in), 10 RI/VI (in), 11 RST (out), 12 PON (out), 13 CLK (in), 14 DATA (in), 15 SNSL (in), 16 SNLL (in), 17 ASQ (in), 18 ASC (in), 19 RECIN (in), 20 REOUT (out), 21 GTR (in), 22 HFIN (in), 23 MIC1 (in), 24 MIC2 (in), 25 VREF, 26 VCC (power), 27 TSOFT, 28 SOFTL (in), 29 IREF, 30 VS, 31 SLP (in), 32 AGND (power), 33 ILL (in), 34 ISL (in), 35 EAR+ (out), 36 EAR- (out), 37 GREC (in), 38 VZP, 39 SWP, 40 RSU, 41 RCO (out), 42 DTMF2, 43 PGND (power), 44 LSOUT (out)

## TEA7092TQT
designator U?
Telephone Analog Front-End; Published: 24-Aug-2001; LatestRevisionDate: 6-Jun-2005; LatestRevisionNote: Stylized 3D Model Added.; DatasheetDocument: Jul-1996; PackageDocument: Oct-2003; PackageReference: TQFP44; Publisher: Altium Limited; ComponentLink1Description: Manufacturer Link; ComponentLink1URL: http://www.st.com/
footprint TQFP44 (QFP, Plastic, Thin; 44 Leads; Body 10 x 10 mm; Pitch 0.8 mm)
3D model TEA7092-TQFP44 (QFP, Plastic, Thin; 44 Leads; Body 10 x 10 mm; Pitch 0.8 mm)
pins: 1 VLS (power), 2 VMC (power), 3 VL (out), 4 VREFL, 5 LSIN (in), 6 LSSOF, 7 DTMF1, 8 VRMC (power), 9 OSC (in), 10 RI/VI (in), 11 RST (out), 12 PON (out), 13 CLK (in), 14 DATA (in), 15 SNSL (in), 16 SNLL (in), 17 ASQ (in), 18 ASC (in), 19 RECIN (in), 20 REOUT (out), 21 GTR (in), 22 HFIN (in), 23 MIC1 (in), 24 MIC2 (in), 25 VREF, 26 VCC (power), 27 TSOFT, 28 SOFTL (in), 29 IREF, 30 VS, 31 SLP (in), 32 AGND (power), 33 ILL (in), 34 ISL (in), 35 EAR+ (out), 36 EAR- (out), 37 GREC (in), 38 VZP, 39 SWP, 40 RSU, 41 RCO (out), 42 DTMF2, 43 PGND (power), 44 LSOUT (out)